# EAGLE library part CH340G (library inker_super_board_parts)
CH340G SOIC16 USB to Serial TTL-RS232 converter IC Source: Datasheet <https://www.mpja.com/download/35227cpdata.pdf> Buy From: Robu.in <https://robu.in/product/ch340g-soic16-usb-to-serial-ttl-rs232-converter-ic/>
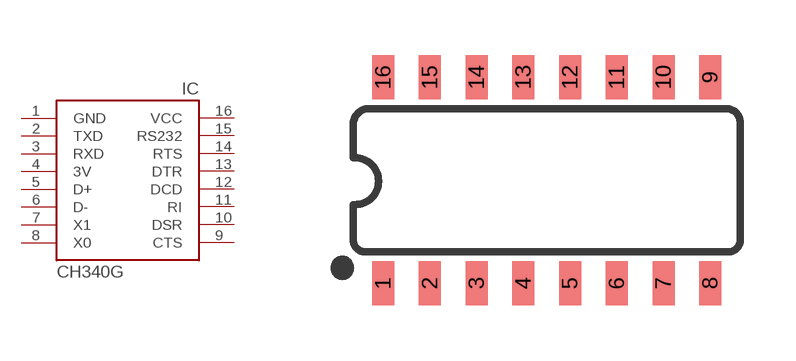
[diagram p3: symbol with the pads of SO16; footprint SO16]

Designator prefix IC

## CH340G  [SO16]
1  GND  pwr
2  TXD  out
3  RXD  in
4  3V  pwr
5  D+
6  D-
7  X1
8  X0
9  CTS
10  DSR
11  RI
12  DCD
13  DTR
14  RTS
15  RS232
16  VCC  pwr

## Footprint SO16 (pad centres in mm)
SOIC-16 Specifications: Pin count: 16 Width:0.15" Example device(s): HEX_CONVERTER
smd 0.6 x 1.2: 1 -4.445,-2.8; 2 -3.175,-2.8; 3 -1.905,-2.8; 4 -0.635,-2.8; 5 0.635,-2.8; 6 1.905,-2.8; 7 3.175,-2.8; 8 4.445,-2.8; 9 4.445,2.8; 10 3.175,2.8; 11 1.905,2.8; 12 0.635,2.8; 13 -0.635,2.8; 14 -1.905,2.8; 15 -3.175,2.8; 16 -4.445,2.8